# EAGLE library part FDC6326L (library SHC)
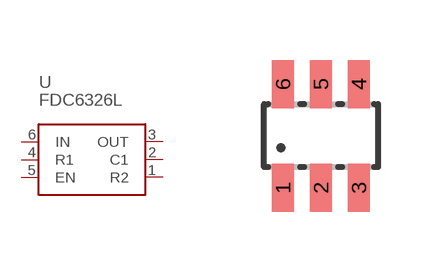
[diagram p11: symbol with the pads of SOT-6; footprint SOT-6]

Designator prefix -

## FDC6326L  [SOT-6]
1  R2
2  C1
3  OUT
4  R1
5  EN
6  IN

## Footprint SOT-6 (pad centres in mm)
smd 0.55 x 1.2: 1 -0.95,-1.3; 2 0,-1.3; 3 0.95,-1.3; 4 0.95,1.291; 5 0,1.291; 6 -0.95,1.291